# Altium integrated library Wurth_Electronics_Midcom_Altium_Packages_ALTIUM-MID-D11-rev1.IntLib: 5 symbols
Pins are listed as number, name and electrical type; pins without a type are passive.

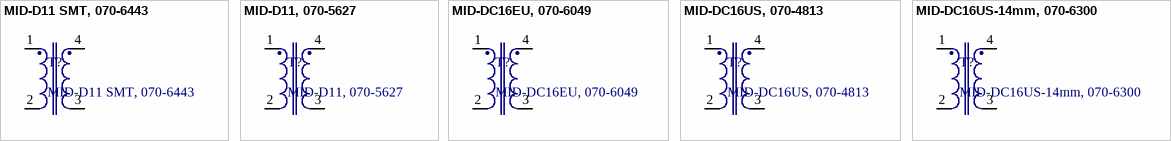
[diagram p0: symbols MID-D11 SMT, 070-6443 to MID-DC16US-14mm, 070-6300]

## MID-D11 SMT, 070-6443
designator T?
Dual Coil - Common Mode Choke, 4-Terminal, SMT, MID-D11, Bobbin-070-6443; Manufacturer: Würth Elektronik Midcom GmbH; Core: 150-2493; PartNo: MID-D11 SMT, 070-6443; ComponentLink1Description: Manufacturer; ComponentLink1URL: http://www.we-online.com/Midcom; Created by: kangas toby; Created Date: Jan 2017; ComponentLink2Description: Datasheet; ComponentLink2URL: http://katalog.we-online.com/en/ctm/MID-D11#vs_ct:2; Package: MID-D11 SMT, 070-6443; Bobbin: 070-6443
footprint MID-D11 SMT, 070-6443 (SMT, Body 18.08X15.70mm, 4Pins, Pitch 8.94mm)
pins: 1, 2, 3, 4

## MID-D11, 070-5627
designator T?
Dual Coil - Common Mode Choke, 4-Terminal, THT, MID-D11, Bobbin-070-5627; Manufacturer: Würth Elektronik Midcom GmbH; Core: 150-2493; PartNo: MID-D11, 070-5627; ComponentLink1Description: Manufacturer; ComponentLink1URL: http://www.we-online.com/Midcom; Created by: kangas toby; Created Date: Aug 2015; ComponentLink2Description: Datasheet; ComponentLink2URL: http://katalog.we-online.de/en/ctm/MID-D11; Package: MID-D11, 070-5627; Bobbin: 070-5627
footprint MID-D11, 070-5627 (THT, Body 15.75X8.71mm, 4Pins, Pitch 5.8mm)
pins: 1, 2, 3, 4

## MID-DC16EU, 070-6049
designator T?
Dual Common and Differential Mode Chokes for Power Lines, 4-Terminal, THT, MID-DC16EU, Bobbin-070-6049; Manufacturer: Würth Elektronik Midcom GmbH; Core: 150-2955; PartNo: MID-DC16EU, 070-6049; ComponentLink1Description: Manufacturer; ComponentLink1URL: http://www.we-online.com/Midcom; Created by: kangas toby; Created Date: Aug 2015; ComponentLink2Description: Datasheet; ComponentLink2URL: http://katalog.we-online.de/en/ctm/MID-DC16EU; Package: MID-DC16EU, 070-6049; Bobbin: 070-6049
footprint MID-DC16EU (THT, Body 25.20X17.60mm, 4Pins, Pitch 11.95mm)
pins: 1, 2, 3, 4

## MID-DC16US, 070-4813
designator T?
Common Mode Choke, 4-Terminal, THT, MID-DC16US, Bobbin-070-4813; Manufacturer: Würth Elektronik Midcom GmbH; Core: 150-1574; PartNo: MID-DC16US, 070-4813; ComponentLink1Description: Manufacturer; ComponentLink1URL: http://www.we-online.com/Midcom; Created by: kangas toby; Created Date: Aug 2015; ComponentLink2Description: Datasheet; ComponentLink2URL: http://katalog.we-online.de/en/ctm/MID-DC16US; Package: MID-DC16US, 070-4813; Bobbin: 070-4813
footprint MID-DC16US (THT, Body 22.86X13.97mm, 4Pins, Pitch 10mm)
pins: 1, 2, 3, 4

## MID-DC16US-14mm, 070-6300
designator T?
Common Mode Choke, 4-Terminal, THT, MID-DC16US -14mm, Bobbin-070-6300; Manufacturer: Würth Elektronik Midcom GmbH; Core: 150-1574; PartNo: MID-DC16US-14mm, 070-6300; ComponentLink1Description: Manufacturer; ComponentLink1URL: http://www.we-online.com/Midcom; Created by: kangas toby; Created Date: Aug 2015; ComponentLink2Description: Datasheet; ComponentLink2URL: http://katalog.we-online.de/en/ctm/MID-DC16US#vs_ct:2; Package: MID-DC16US-14mm, 070-6300; Bobbin: 070-6300
footprint MID-DC16US-14mm (THT, Body 22.86X13.97mm, 4Pins, Pitch 10mm)
pins: 1, 2, 3, 4